# Altium schematic symbol library library-schematic-lib2.schlib: 138 symbols (part 1 of 2)
Pins are listed as number, name and electrical type; pins without a type are passive.

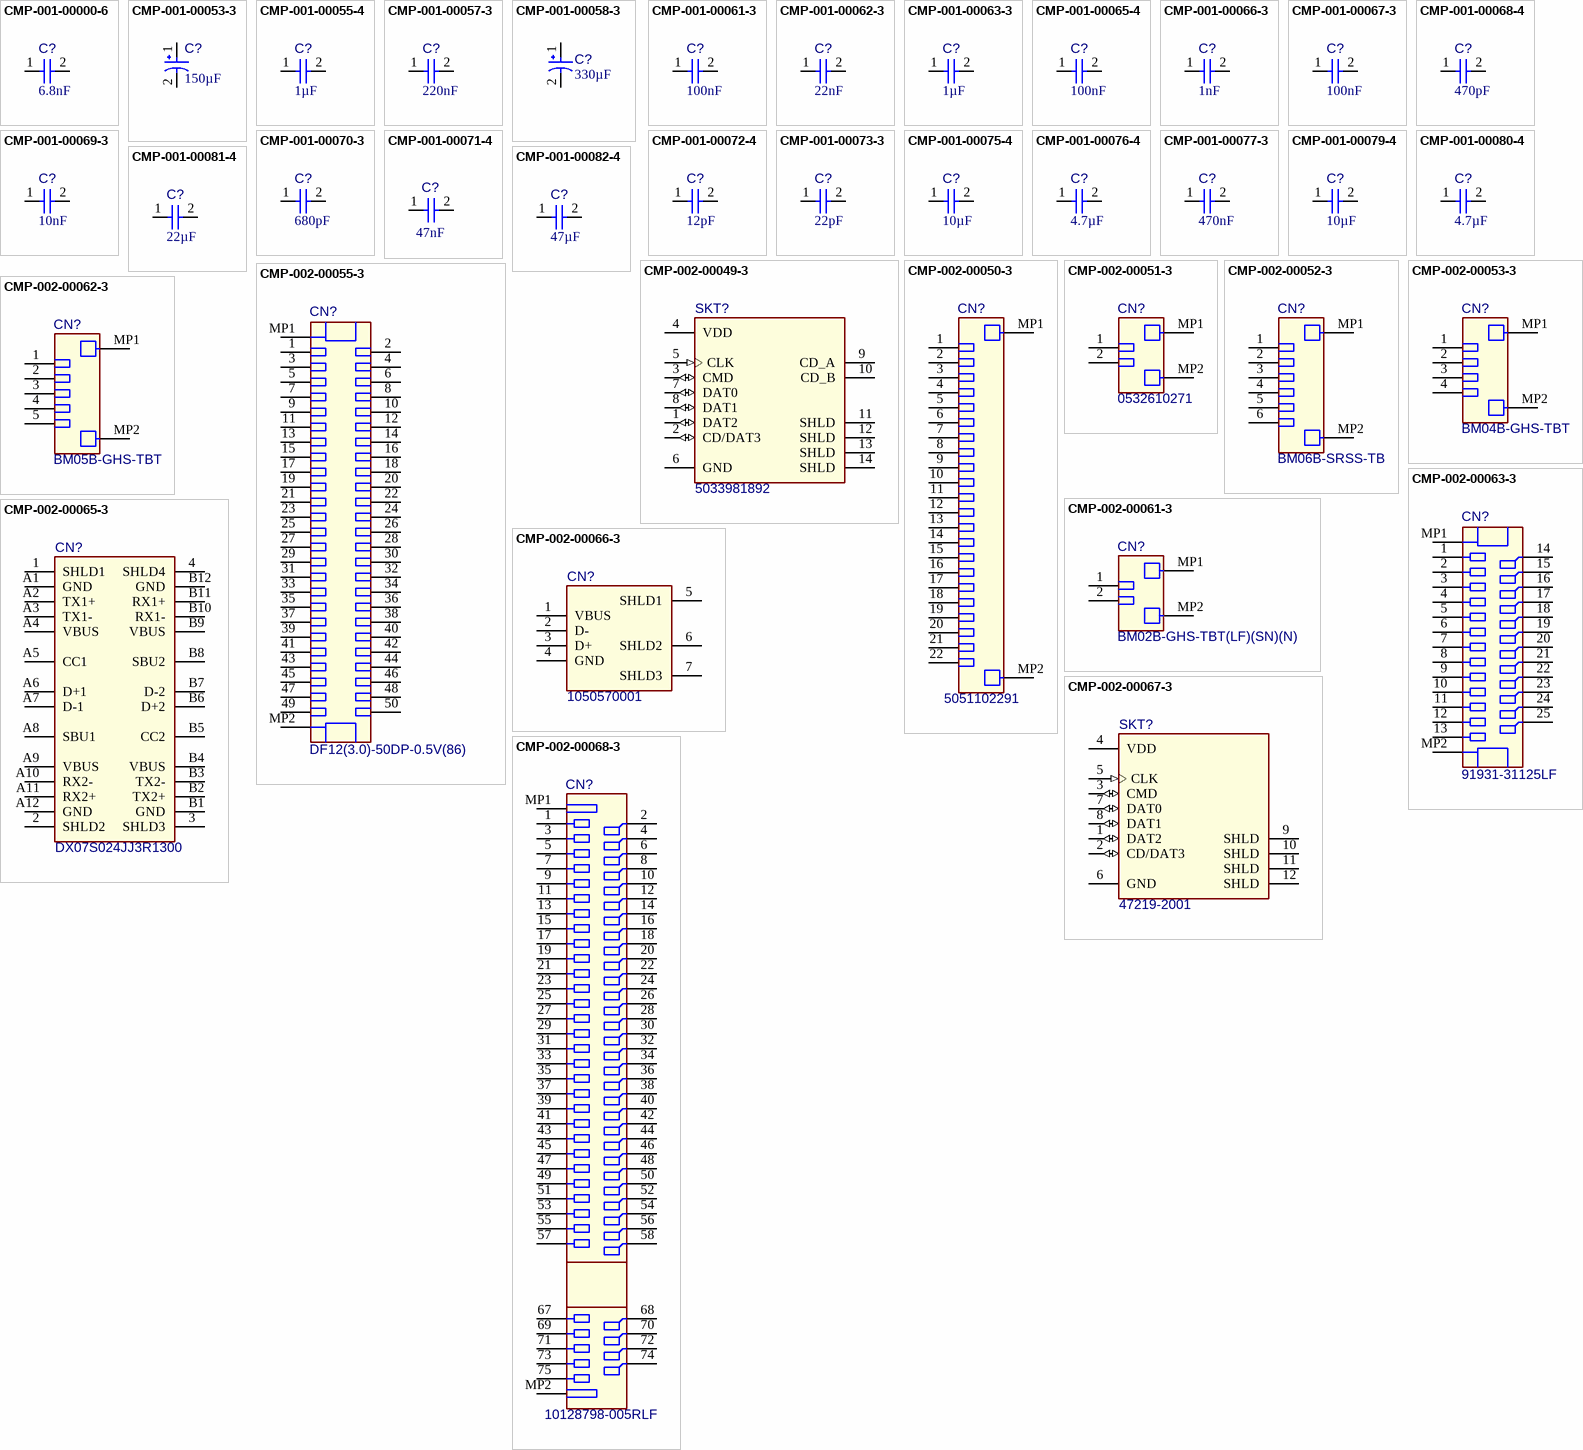
[diagram p0: symbols CMP-001-00000-6 to CMP-002-00068-3]

## CMP-001-00000-6
designator C?, comment value 6.8nF  (hidden comment: Capacitor 6.8 nF +/- 10% 16 V 0402)
Chip Capacitor, 6.8 nF, +/- 10%, 16 V, 0402 (1005 Metric); Manufacturer: Yageo; Manufacturer Part Number: CC0402KRX7R7BB682; Manufacturer: KEMET; Manufacturer Part Number: C0402C682K4RACTU; Manufacturer: Kyocera AVX; Manufacturer Part Number: 04023C682KAT2A; Voltage Rating: 16V; Capacitor Type: Ceramic; Tolerance: 10%; Min Operating Temperature: -55°C; Case/Package: 0402; Mounting Technology: SM; Max Operating Temperature: 125°C; Pins: 2; RoHS Compliant: True
footprint CAPC1005X56X25NL10T15 (Chip Capacitor, 2-Leads, Body 1.10x0.60mm, IPC Medium Density)
footprint CAPC1005X56X25ML10T15 (Chip Capacitor, 2-Leads, Body 1.10x0.60mm, IPC Low Density)
footprint CAPC1005X56X25LL10T15 (Chip Capacitor, 2-Leads, Body 1.10x0.60mm, IPC High Density)
pins: 1, 2

## CMP-001-00053-3
designator C?, comment value 150µF  (hidden comment: Capacitor 150µF +/-20% 6.3V B2)
Molded Tantalum Polymer Capacitor, 150 uF, +/- 20%, 6.3 V, -55 to 105 degC, 2-Pin SMD, RoHS, Tape and Reel; Manufacturer: Panasonic; Manufacturer Part Number: 6TPE150MAZB; Manufacturer: KEMET; Manufacturer Part Number: T520B157M006ATE035; Max Operating Temperature: 105°C; Tolerance: 20%; Case/Package: 2917; Min Operating Temperature: -55°C; Mounting Technology: SMT; Voltage Rating: 6.3V; Pins: 2
footprint PNSC-6TPE150MAZB_L (Molded Capacitor, 2-Leads, Body 3.70x3mm, IPC High Density)
pins: 1, 2

## CMP-001-00055-4
designator C?, comment value 1µF  (hidden comment: Capacitor 1µF +/-0.1% 25V 0603)
Chip Capacitor, 1µF +/-0.1%, 25V, 0603, Thickness 1 mm; Manufacturer: TDK; Manufacturer Part Number: CGA3E3X5R1E105K080AB; Manufacturer: Yageo; Manufacturer Part Number: CC0603KRX5R8BB105; Manufacturer: Samsung; Manufacturer Part Number: CL10A105KA8NNNC; Manufacturer Part Number: CL10A105KA8NFNC; Tolerance: 20%; Max Operating Temperature: 85°C; Voltage Rating: 25V; Pins: 2; Min Operating Temperature: -55°C; Mounting Technology: SMT; Case/Package: 0603
footprint CAPC0603(1608)100_L (Chip Capacitor, Body 1.6x0.8mm, Height 1.0mm, IPC High Density)
pins: 1, 2

## CMP-001-00057-3
designator C?, comment value 220nF  (hidden comment: Capacitor 220nF +/-20% 10V 0402)
Chip Capacitor, 220nF +/-20%, 10V, 0402, Thickness 0.6 mm; Manufacturer: TDK; Manufacturer Part Number: C1005X7R1A224K; Manufacturer Part Number: C1005X5R1A224K; Manufacturer: Yageo; Manufacturer Part Number: CC0402KRX5R6BB224; Tolerance: 10%; Case/Package: 0402; Voltage Rating: 10V; Mounting Technology: SMT; Pins: 2; Max Operating Temperature: 85°C; Min Operating Temperature: -55°C
footprint CAPC0402(1005)60_L (Chip Capacitor, Body 1.0x0.5mm, Height 0.6mm, IPC High Density)
pins: 1, 2

## CMP-001-00058-3
designator C?, comment value 330µF  (hidden comment: Capacitor 330µF +/-20% 6.3V D3)
Molded Tantalum Polymer Capacitor, 330 uF, +/- 20%, 6.3 V, -55 to 105 degC, 2-Pin SMD, RoHS, Tape and Reel; Manufacturer: Panasonic; Manufacturer Part Number: 6TPF330M9L; Tolerance: 20%; Min Operating Temperature: -55°C; Case/Package: 1210; Mounting Technology: SMT; Max Operating Temperature: 105°C; Voltage Rating: 6.3V; Pins: 2
footprint PNSC-6TPF220M5L (Molded Capacitor, 2-Leads, Body 7.60x4.60mm, IPC High Density)
pins: 1, 2

## CMP-001-00061-3
designator C?, comment value 100nF  (hidden comment: Capacitor 100nF +/-20% 10V 0402)
Chip Capacitor, 100nF +/-20%, 10V, 0402, Thickness 0.6 mm; Manufacturer: Yageo; Manufacturer Part Number: CC0402KRX5R6BB104; Manufacturer: KEMET; Manufacturer Part Number: C0402C104K8RACTU; Manufacturer: TDK; Manufacturer Part Number: C1005X7R1A104K; Manufacturer Part Number: C1005X5R1A104K; Manufacturer: Kyocera AVX; Manufacturer Part Number: 0402ZD104KAT4A; Manufacturer Part Number: CC0402KPX7R6BB104; Manufacturer Part Number: C0402C104K8PAC; Manufacturer: Vishay Vitramon; Manufacturer Part Number: VJ0402G104KXQPW1BC; Manufacturer Part Number: CC0402KRX7R6BB104; Manufacturer Part Number: 0402ZD104KAT2A; Manufacturer: Vishay; Manufacturer Part Number: VJ0402Y104KXQCW1BC; Manufacturer Part Number: C0402C104K8PACTU; Manufacturer Part Number: VJ0402G104KXQCW1BC; Manufacturer: Vishay Semiconductors; Manufacturer Part Number: VJ0402Y104KXQPW1BC; Manufacturer: Murata; Manufacturer Part Number: GRM155R71A104KA01D; Manufacturer Part Number: C0402C104K8RAC; Tolerance: 20%; Min Operating Temperature: -55°C; Case/Package: 0402; Voltage Rating: 10V; Pins: 2; Mounting Technology: SMT; Max Operating Temperature: 85°C
footprint CAPC0402(1005)60_L (Chip Capacitor, Body 1.0x0.5mm, Height 0.6mm, IPC High Density)
pins: 1, 2

## CMP-001-00062-3
designator C?, comment value 22nF  (hidden comment: Capacitor 22nF +/-20% 10V 0402)
Chip Capacitor, 22nF +/-20%, 10V, 0402, Thickness 0.6 mm; Manufacturer: KEMET; Manufacturer Part Number: C0402C223K8RAC; Manufacturer: Vishay Vitramon; Manufacturer Part Number: VJ0402Y223KXQCW1BC; Manufacturer Part Number: C0402C223K8PAC; Manufacturer Part Number: VJ0402Y223KXQPW1BC; Manufacturer Part Number: C0402C223K8PACTU; Manufacturer Part Number: C0402C223K8RACTU; Tolerance: 10%; Pins: 2; Case/Package: 0402; Max Operating Temperature: 85°C; Min Operating Temperature: -55°C; Mounting Technology: SMT; Voltage Rating: 10V
footprint CAPC0402(1005)60_L (Chip Capacitor, Body 1.0x0.5mm, Height 0.6mm, IPC High Density)
pins: 1, 2

## CMP-001-00063-3
designator C?, comment value 1µF  (hidden comment: Capacitor 1µF +/-20% 10V 0402)
Chip Capacitor, 1µF +/-20%, 10V, 0402, Thickness 0.6 mm; Manufacturer: Kyocera AVX; Manufacturer Part Number: 0402ZD105KAT2A; Manufacturer: KEMET; Manufacturer Part Number: C0402C105K8PACTU; Manufacturer: Yageo; Manufacturer Part Number: CC0402KRX5R6BB105; Manufacturer: TDK; Manufacturer Part Number: C1005X5R1A105K050BB; Manufacturer Part Number: C1005X6S1A105K; Manufacturer Part Number: C0402C105K8PAC; Tolerance: 10%; Case/Package: 0402; Voltage Rating: 10V; Min Operating Temperature: -55°C; Mounting Technology: SMT; Pins: 2; Max Operating Temperature: 85°C
footprint CAPC0402(1005)60_L (Chip Capacitor, Body 1.0x0.5mm, Height 0.6mm, IPC High Density)
pins: 1, 2

## CMP-001-00065-4
designator C?, comment value 100nF  (hidden comment: Capacitor 100nF +/-20% 25V 0402)
Chip Capacitor, 100nF +/-20%, 25V, 0402, Thickness 0.6 mm; Manufacturer: TDK; Manufacturer Part Number: CGA2B3X7R1E104K050BB; Manufacturer: Kyocera AVX; Manufacturer Part Number: 04023D104KAT2A; Manufacturer: Samsung; Manufacturer Part Number: CL05A104KA5NNNC; Manufacturer: Yageo; Manufacturer Part Number: CC0402KRX5R8BB104; Tolerance: 10%; Mounting Technology: SMT; Pins: 2; Voltage Rating: 25V; Min Operating Temperature: -55°C; Case/Package: 0402; Max Operating Temperature: 85°C
footprint CAPC0402(1005)60_L (Chip Capacitor, Body 1.0x0.5mm, Height 0.6mm, IPC High Density)
pins: 1, 2

## CMP-001-00066-3
designator C?, comment value 1nF  (hidden comment: Capacitor 1nF +/-20% 50V 0402)
Chip Capacitor, 1nF +/-20%, 50V, 0402, Thickness 0.33 mm; Manufacturer: Yageo; Manufacturer Part Number: CC0402KPX7R9BB102; Manufacturer: Murata; Manufacturer Part Number: GRM15XR71H102KA86D; Manufacturer: Wurth Electronics; Manufacturer Part Number: 885012205061; Manufacturer: Vishay Vitramon; Manufacturer Part Number: VJ0402Y102KXAAC; Tolerance: 10%; Case/Package: 0402; Voltage Rating: 50V; Pins: 2; Mounting Technology: SMT; Max Operating Temperature: 85°C; Min Operating Temperature: -55°C
footprint CAPC0402(1005)33_L (Chip Capacitor, Body 1.0x0.5mm, Height 0.33mm, IPC High Density)
pins: 1, 2

## CMP-001-00067-3
designator C?, comment value 100nF  (hidden comment: Capacitor 100nF +/-20% 50V 0402)
Chip Capacitor, 100nF +/-20%, 50V, 0402, Thickness 0.6 mm; Manufacturer: Murata; Manufacturer Part Number: GRM155R61H104JE14D; Manufacturer: Taiyo Yuden; Manufacturer Part Number: UMK105B7104KV-FR; Manufacturer: TDK; Manufacturer Part Number: C1005X7R1H104K; Manufacturer: Yageo; Manufacturer Part Number: CC0402KRX7R9BB104; Manufacturer Part Number: C1005X6S1H104K050BB; Manufacturer Part Number: CC0402KRX5R9BB104; Manufacturer Part Number: C1005X7R1H104K050BB; Manufacturer Part Number: GRM155R71H104KE14D; Manufacturer: Kyocera AVX; Manufacturer Part Number: 04025D104KAT2A; Manufacturer Part Number: GCM155L81E104KE02D; Manufacturer Part Number: C1005X5R1H104K; Tolerance: 10%; Voltage Rating: 50V; Pins: 2; Mounting Technology: SMT; Case/Package: 0402; Max Operating Temperature: 85°C; Min Operating Temperature: -55°C
footprint CAPC0402(1005)60_L (Chip Capacitor, Body 1.0x0.5mm, Height 0.6mm, IPC High Density)
pins: 1, 2

## CMP-001-00068-4
designator C?, comment value 470pF  (hidden comment: Capacitor 470pF +/-20% 50V 0402)
Chip Capacitor, 470pF +/-20%, 50V, 0402, Thickness 0.6 mm; Manufacturer: Kyocera AVX; Manufacturer Part Number: 04025C471KAT4A; Manufacturer: KEMET; Manufacturer Part Number: C0402C471K5RACTM; Manufacturer: Yageo; Manufacturer Part Number: CC0402KRX7R9BB471; Manufacturer: TDK; Manufacturer Part Number: C1005X7R1H471K; Manufacturer Part Number: 04025C471KAT2A; Manufacturer Part Number: C0402C471K5GACTU; Manufacturer: Vishay Vitramon; Manufacturer Part Number: VJ0402Y471KXAAP; Manufacturer Part Number: C0402C471K5RACTU; Manufacturer: Vishay; Manufacturer Part Number: VJ0402Y471KXACW1BC; Manufacturer Part Number: VJ0402Y471KXAPW1BC; Manufacturer Part Number: 04025A471KAT2A; Manufacturer Part Number: C0402C471K5RAC; Manufacturer Part Number: VJ0402Y471KXAAC; Manufacturer Part Number: C1005X5R1H471K; Manufacturer: Murata; Manufacturer Part Number: GRM15XR71H471KA86D; Manufacturer Part Number: C0402C471K5GAC; Manufacturer Part Number: GRM155R71H471KA01D; Tolerance: 20%; Voltage Rating: 50V; Case/Package: 0402; Pins: 2; Mounting Technology: SMT; Max Operating Temperature: 85°C; Min Operating Temperature: -55°C
footprint CAPC0402(1005)60_L (Chip Capacitor, Body 1.0x0.5mm, Height 0.6mm, IPC High Density)
pins: 1, 2

## CMP-001-00069-3
designator C?, comment value 10nF  (hidden comment: Capacitor 10nF +/-20% 50V 0402)
Chip Capacitor, 10nF +/-20%, 50V, 0402, Thickness 0.6 mm; Manufacturer: Vishay Vitramon; Manufacturer Part Number: VJ0402Y103KXACW1BC; Manufacturer: KEMET; Manufacturer Part Number: C0402C103K5RAC-TU; Manufacturer: Vishay Semiconductors; Manufacturer Part Number: VJ0402Y103KXAAC; Manufacturer: Vishay; Manufacturer Part Number: VJ0402Y103KNAAO; Manufacturer Part Number: C0402C103K5RAC; Manufacturer: Yageo; Manufacturer Part Number: CC0402KRX7R9BB103; Manufacturer: TDK; Manufacturer Part Number: C1005X6S1H103K; Manufacturer: Murata; Manufacturer Part Number: GRM155R71H103KA88D; Manufacturer Part Number: C1005X7R1H103K; Tolerance: 5%; Voltage Rating: 50V; Mounting Technology: SMT; Pins: 2; Case/Package: 0402; Max Operating Temperature: 85°C; Min Operating Temperature: -55°C
footprint CAPC0402(1005)60_L (Chip Capacitor, Body 1.0x0.5mm, Height 0.6mm, IPC High Density)
pins: 1, 2

## CMP-001-00070-3
designator C?, comment value 680pF  (hidden comment: Capacitor 680pF +/-20% 50V 0402)
Chip Capacitor, 680pF +/-20%, 50V, 0402, Thickness 0.33 mm; Manufacturer: Murata; Manufacturer Part Number: GRM15XR71H681KA86D; Tolerance: 10%; Voltage Rating: 50V; Pins: 2; Case/Package: 0402; Mounting Technology: SMT; Max Operating Temperature: 85°C; Min Operating Temperature: -55°C
footprint CAPC0402(1005)33_L (Chip Capacitor, Body 1.0x0.5mm, Height 0.33mm, IPC High Density)
pins: 1, 2

## CMP-001-00071-4
designator C?, comment value 47nF  (hidden comment: Capacitor 47nF +/-20% 50V 0402)
Chip Capacitor, 47nF +/-20%, 50V, 0402, Thickness 0.6 mm; Manufacturer: TDK; Manufacturer Part Number: C1005X7R1H473K; Manufacturer Part Number: C1005X7R1H473K050BE; Manufacturer Part Number: C1005X5R1H473K050BB; Manufacturer Part Number: C1005X7R1H473K050BB; Tolerance: 20%; Pins: 2; Voltage Rating: 50V; Mounting Technology: SMT; Case/Package: 0402; Max Operating Temperature: 85°C; Min Operating Temperature: -55°C
footprint CAPC0402(1005)60_L (Chip Capacitor, Body 1.0x0.5mm, Height 0.6mm, IPC High Density)
pins: 1, 2

## CMP-001-00072-4
designator C?, comment value 12pF  (hidden comment: Capacitor 12pF +/-10% 50V 0402)
Chip Capacitor, 12pF +/-10%, 50V, 0402, Thickness 0.33 mm; Manufacturer: Murata; Manufacturer Part Number: GRM1535C1H120JDD5D; Manufacturer: KEMET; Manufacturer Part Number: C0402C120J5GACTU; Manufacturer Part Number: C0402C120J5GACAUTO; Manufacturer: Vishay; Manufacturer Part Number: VJ0402A120JXACW1BC; Manufacturer: TDK; Manufacturer Part Number: CGA2B2C0G1H120J050BA; Manufacturer Part Number: GCM1555C1H120JA16D; Tolerance: 20%; Voltage Rating: 50V; Pins: 2; Case/Package: 0402; Mounting Technology: SMT; Max Operating Temperature: 85°C; Min Operating Temperature: -55°C
footprint CAPC0402(1005)33_L (Chip Capacitor, Body 1.0x0.5mm, Height 0.33mm, IPC High Density)
pins: 1, 2

## CMP-001-00073-3
designator C?, comment value 22pF  (hidden comment: Capacitor 22pF +/-10% 50V 0402)
Chip Capacitor, 22pF +/-10%, 50V, 0402, Thickness 0.6 mm; Manufacturer: KEMET; Manufacturer Part Number: C0402C220J5GAC; Manufacturer: Murata; Manufacturer Part Number: GRM1535C1H220JDD5D; Manufacturer Part Number: GRM1555C1H220JA01D; Manufacturer: Yageo; Manufacturer Part Number: CC0402JRNP09BN220; Manufacturer: TDK; Manufacturer Part Number: C1005C0G1H220J; Manufacturer: Vishay Vitramon; Manufacturer Part Number: VJ0402A220JXAAC; Manufacturer: Vishay; Manufacturer Part Number: VJ0402A220JXACW1BC; Manufacturer: Kyocera AVX; Manufacturer Part Number: 04025A220JAT2A; Manufacturer Part Number: VJ0402A220JNAAO; Manufacturer Part Number: VJ0402A220JXAPW1BC; Manufacturer Part Number: VJ0402A220JXAAP; Manufacturer Part Number: C0402C220J5GACTU; Manufacturer Part Number: 04025A220JAT4A; Tolerance: 10%; Voltage Rating: 50V; Pins: 2; Case/Package: 0402; Mounting Technology: SMT; Max Operating Temperature: 85°C; Min Operating Temperature: -55°C
footprint CAPC0402(1005)60_L (Chip Capacitor, Body 1.0x0.5mm, Height 0.6mm, IPC High Density)
pins: 1, 2

## CMP-001-00075-4
designator C?, comment value 10µF  (hidden comment: Capacitor 10µF +/-20% 10V 0603)
Chip Capacitor, 10µF +/-20%, 10V, 0603, Thickness 1 mm; Manufacturer: Yageo; Manufacturer Part Number: CC0603KRX5R6BB106; Manufacturer: TDK; Manufacturer Part Number: C1608X5R1A106K; Manufacturer: Kyocera AVX; Manufacturer Part Number: 0603ZD106KAT2A; Manufacturer: Murata; Manufacturer Part Number: GRM188R61C106KAALD; Manufacturer: Samsung; Manufacturer Part Number: CL10A106KP8NNNC; Manufacturer Part Number: C1608X5R1A106K080AC; Manufacturer Part Number: GRM188R61A106KAALD; Tolerance: 10%; Pins: 2; Mounting Technology: SMT; Case/Package: 0603; Voltage Rating: 10V; Max Operating Temperature: 85°C; Min Operating Temperature: -55°C
footprint CAPC0603(1608)100_L (Chip Capacitor, Body 1.6x0.8mm, Height 1.0mm, IPC High Density)
pins: 1, 2

## CMP-001-00076-4
designator C?, comment value 4.7µF  (hidden comment: Capacitor 4.7µF +/-20% 10V 0603)
Chip Capacitor, 4.7µF +/-20%, 10V, 0603, Thickness 1 mm; Manufacturer: Kyocera AVX; Manufacturer Part Number: 0603ZD475KAT2A; Manufacturer: Yageo; Manufacturer Part Number: CC0603KRX5R6BB475; Manufacturer: KEMET; Manufacturer Part Number: C0603C475K8PAC; Manufacturer Part Number: C0603C475K8PACTU; Manufacturer: TDK; Manufacturer Part Number: C1608X6S1A475K; Manufacturer Part Number: C1608X5R1A475K/0.80; Manufacturer Part Number: C1608X5R1A475K/0.50; Tolerance: 10%; Mounting Technology: SMT; Case/Package: 0603; Voltage Rating: 10V; Pins: 2; Max Operating Temperature: 85°C; Min Operating Temperature: -55°C
footprint CAPC0603(1608)100_L (Chip Capacitor, Body 1.6x0.8mm, Height 1.0mm, IPC High Density)
pins: 1, 2

## CMP-001-00077-3
designator C?, comment value 470nF  (hidden comment: Capacitor 470nF +/-20% 25V 0603)
Chip Capacitor, 470nF +/-20%, 25V, 0603, Thickness 1 mm; Manufacturer: TDK; Manufacturer Part Number: C1608X6S1E474K; Manufacturer Part Number: C1608X7R1E474K; Manufacturer Part Number: C1608X5R1E474K; Manufacturer: Vishay; Manufacturer Part Number: VJ0603Y474KXXCW1BC; Manufacturer: Murata; Manufacturer Part Number: GRM188R71E474KA12D; Manufacturer: Yageo; Manufacturer Part Number: CC0603KRX5R8BB474; Manufacturer: Kyocera AVX; Manufacturer Part Number: 06033C474KAT2A; Tolerance: 10%; Voltage Rating: 25V; Mounting Technology: SMT; Pins: 2; Case/Package: 0603; Max Operating Temperature: 85°C; Min Operating Temperature: -55°C
footprint CAPC0603(1608)100_L (Chip Capacitor, Body 1.6x0.8mm, Height 1.0mm, IPC High Density)
pins: 1, 2

## CMP-001-00079-4
designator C?, comment value 10µF  (hidden comment: Capacitor 10µF +/-20% 25V 0805)
Chip Capacitor, 10µF +/-20%, 25V, 0805, Thickness 1.45 mm; Manufacturer: Yageo; Manufacturer Part Number: CC0805KKX5R8BB106; Manufacturer: TDK; Manufacturer Part Number: C2012X5R1E106K125AB; Manufacturer: Samsung; Manufacturer Part Number: CL21A106KACLRNC; Manufacturer Part Number: C2012X5R1E106K; Manufacturer: Murata; Manufacturer Part Number: GRM21BR61E106KA73L; Manufacturer Part Number: C2012X5R1E106K085AC; Tolerance: 10%; Mounting Technology: SMT; Voltage Rating: 25V; Pins: 2; Case/Package: 0805; Max Operating Temperature: 85°C; Min Operating Temperature: -55°C
footprint CAPC0805(2012)145_L (Chip Capacitor, Body 2.0x1.2mm, Height 1.45mm, IPC High Density)
pins: 1, 2

## CMP-001-00080-4
designator C?, comment value 4.7µF  (hidden comment: Capacitor 4.7µF +/-40% 25V 0805)
Chip Capacitor, 4.7µF +/-40%, 25V, 0805, Thickness 1.45 mm; Manufacturer: Kyocera AVX; Manufacturer Part Number: 08053D475MAT2A; Manufacturer: KEMET; Manufacturer Part Number: C0805C475M3PAC; Manufacturer Part Number: 08053C475KAT2A; Tolerance: 20%; Voltage Rating: 25V; Mounting Technology: SMT; Pins: 2; Case/Package: 0805; Max Operating Temperature: 85°C; Min Operating Temperature: -55°C
footprint CAPC0805(2012)145_L (Chip Capacitor, Body 2.0x1.2mm, Height 1.45mm, IPC High Density)
pins: 1, 2

## CMP-001-00081-4
designator C?, comment value 22µF  (hidden comment: Capacitor 22µF +/-40% 16V 0805)
Chip Capacitor, 22µF +/-40%, 16V, 0805, Thickness 1.45 mm; Manufacturer: Murata; Manufacturer Part Number: GRM219R61C226ME15L; Manufacturer: Samsung; Manufacturer Part Number: CL21A226MAQNNNE; Manufacturer Part Number: CL21A226MOCLRNC; Manufacturer: TDK; Manufacturer Part Number: C2012X5R1C226M; Manufacturer Part Number: CL21A226MOQNNNE; Manufacturer Part Number: CL21A226KOQNNNE; Manufacturer Part Number: GRM21BR61C226ME44L; Tolerance: 5%; Voltage Rating: 16V; Case/Package: 0805; Pins: 2; Mounting Technology: SMT; Max Operating Temperature: 85°C; Min Operating Temperature: -55°C
footprint CAPC0805(2012)145_L (Chip Capacitor, Body 2.0x1.2mm, Height 1.45mm, IPC High Density)
pins: 1, 2

## CMP-001-00082-4
designator C?, comment value 47µF  (hidden comment: Capacitor 47µF +/-40% 6.3V 0805)
Chip Capacitor, 47µF +/-40%, 6.3V, 0805, Thickness 1.45 mm; Manufacturer: Murata; Manufacturer Part Number: GRM21BR60J476ME15K; Manufacturer: KEMET; Manufacturer Part Number: C0805C476M9PAC; Manufacturer Part Number: C0805C476M9PAC-TU; Manufacturer: Taiyo Yuden; Manufacturer Part Number: JMK212BBJ476MG-T; Manufacturer: TDK; Manufacturer Part Number: C2012X5R0J476M; Manufacturer Part Number: GRM21BR60J476ME15L; Manufacturer: Samsung; Manufacturer Part Number: CL21A476MQYNNNE; Tolerance: 10%; Case/Package: 0805; Pins: 2; Mounting Technology: SMT; Voltage Rating: 6.3V; Max Operating Temperature: 85°C; Min Operating Temperature: -55°C
footprint CAPC0805(2012)145_L (Chip Capacitor, Body 2.0x1.2mm, Height 1.45mm, IPC High Density)
pins: 1, 2

## CMP-002-00049-3
designator SKT?, comment 5033981892
Micro SD Card Connector, Pitch 1.1 mm, 8 Position, Height 1.4 mm, -25 to 85 degC, RoHS, Tape and Reel; Manufacturer: Molex; Manufacturer Part Number: 503398-1892; Pins: 14
footprint MOLX-5033981892_V (CONN, 8-Leads, Body 14.05x13.2mm, Pitch 1.1mm)
pins: 1 DAT2 (io), 2 CD/DAT3 (io), 3 CMD (io), 4 VDD (power), 5 CLK (in), 6 GND, 7 DAT0 (io), 8 DAT1 (io), 9 CD_A, 10 CD_B, 11 SHLD, 12 SHLD, 13 SHLD, 14 SHLD

## CMP-002-00050-3
designator CN?, comment 5051102291
Right Angle FFC/FPC Connector, 50 V, 0.5 A, -40 to 105 degC, RoHS, Tape and Reel; Manufacturer: Molex; Manufacturer Part Number: 505110-2291; Pins: 24
footprint MOLX-5051102291_V (SMD, 22-Leads, Body 5.3x16.5mm, Pitch 0.5mm)
pins: 1, 2, 3, 4, 5, 6, 7, 8, 9, 10, 11, 12, 13, 14, 15, 16, 17, 18, 19, 20, 21, 22, MP1, MP2

## CMP-002-00051-3
designator CN?, comment 0532610271
Header, Pitch 1.25 mm, 1 x 2 Position, Height 3.6 mm, -40 to 85 degC; Manufacturer: Molex; Manufacturer Part Number: 532610271+; Manufacturer Part Number: 53261-0271; Connector Type: WiretoBoard; Gender: HDR; Pins: 4
footprint MOLX-532610271_V (SMD, 2-Leads, Body 7.65x4.2mm, Pitch 1.25mm)
pins: 1, 2, MP1, MP2

## CMP-002-00052-3
designator CN?, comment BM06B-SRSS-TB
Header, Pitch 1 mm, 1 x 6 Position, Height 4.25 mm, -25 to 85 degC; Manufacturer: JST; Manufacturer Part Number: BM06B-SRSS-TBT(LF)(SN); Manufacturer Part Number: BM06B-SRSS-TB(LF)(SN); Connector Type: Header,Shrouded; Pins: 8; Manufacturer Part Number: BM06B-SRSS-TB
footprint JST-BM06B-SRSS-TB_V (SMD, 6-Leads, Body 2.9x8mm, Pitch 1mm)
pins: 1, 2, 3, 4, 5, 6, MP1, MP2

## CMP-002-00053-3
designator CN?, comment BM04B-GHS-TBT
Header, Pitch 1.25 mm, 1 x 4 Position, Height 4.05 mm, -25 to 85 degC; Manufacturer: JST; Manufacturer Part Number: BM04B-GHS-TBT(LF)(SN)(N); Manufacturer Part Number: BM04B-GHS-TBT(LF)(SN); Pins: 6
footprint JST-BM04B-GHS-TBT_V (Connector, 4-Leads, Body 8.25x4.25mm, Pitch 1.25mm)
pins: 1, 2, 3, 4, MP1, MP2

## CMP-002-00055-3
designator CN?, comment DF12(3.0)-50DP-0.5V(86)
Plug Connector, 50 V, 0.3 A, -45 to 125 degC, RoHS, Tape and Reel; Manufacturer: Hirose; Pins: 52; Manufacturer Part Number: DF12(3.0)-50DP-0.5V(86)
footprint HIRO-DF12(3.0)-50DP-0.5V_V (SMD, 50-Leads, Body 14.7x3.8mm, Pitch 0.5mm)
pins: 1, 2, 3, 4, 5, 6, 7, 8, 9, 10, 11, 12, 13, 14, 15, 16, 17, 18, 19, 20, 21, 22, 23, 24, 25, 26, 27, 28, 29, 30, 31, 32, 33, 34, 35, 36, 37, 38, 39, 40, 41, 42, 43, 44, 45, 46, 47, 48, 49, 50, MP1, MP2

## CMP-002-00061-3
designator CN?, comment BM02B-GHS-TBT(LF)(SN)(N)
Disconnectable Crimp Style Connector, Pitch 1.25 mm, 1 x 2 Position, Height 4.05 mm, -25 to 85 degC, RoHS, Tape and Reel; Manufacturer: JST; Manufacturer Part Number: BM02B-GHS-TBT(LF)(SN)(N)-; Connector Type: Header,Shrouded; Mounting Technology: SurfaceMount; Pins: 4; Case/Package: Disconnectable Crimp Style Connector, Pitch 1.25 mm, 1 x 2 Position, Height 4.05 mm; Manufacturer Part Number: BM02B-GHS-TBT(LF)(SN)(N)
footprint JST-BM02B-GHS-TBT_V (Connector, 2-Leads, Body 5.75x4.25mm, Pitch 1.25mm)
pins: 1, 2, MP1, MP2

## CMP-002-00062-3
designator CN?, comment BM05B-GHS-TBT
GH Disconnectable Crimp Style Connector, Pitch 1.25 mm, 1 x 5 Position, Height 4.05 mm, -25 to 85 degC, RoHS, Tape and Reel; Manufacturer: JST; Manufacturer Part Number: BM05B-GHS-TBT(LF)(SN)(N);-; Manufacturer Part Number: BM05B-GHS-TBT(LF)(SN)(N); Mounting Technology: SurfaceMount; Pins: 7; Case/Package: GH Disconnectable Crimp Style Connector, Pitch 1.25 mm, 1 x 5 Position, Height 4.05 mm
footprint JST-BM05B-GHS-TBT_V (Connector, 5-Leads, Body 9.5x4.25mm, Pitch 1.25mm)
pins: 1, 2, 3, 4, 5, MP1, MP2

## CMP-002-00063-3
designator CN?, comment 91931-31125LF
Receptacle, Pitch 1 mm, 25 Position, Height 4.15 mm, -55 to 130 degC; Manufacturer: Amphenol ICC / FCI; Pins: 27; Manufacturer Part Number: 91931-31125LF
footprint AMPH-91931-31125_V (SMD, 25-Leads, Body 5.59x17.3mm, Pitch 1mm)
pins: 1, 2, 3, 4, 5, 6, 7, 8, 9, 10, 11, 12, 13, 14, 15, 16, 17, 18, 19, 20, 21, 22, 23, 24, 25, MP1, MP2

## CMP-002-00065-3
designator CN?, comment DX07S024JJ3R1300
USB-C Connector, 20 V, 1.25 A, -30 to 80 degC, RoHS, Tape and Reel; Manufacturer: JAE Electronics; Gender: Receptacle; Connector Type: USB-C; Pins: 28; Manufacturer Part Number: DX07S024JJ3R1300
footprint JAE-DX07S024JJ3_V (THD, 24-Leads, Body 8.17x8.94mm, Pitch 0.5mm)
pins: 1 SHLD1, 2 SHLD2, 3 SHLD3, 4 SHLD4, A1 GND, A2 TX1+, A3 TX1-, A4 VBUS, A5 CC1, A6 D+1, A7 D-1, A8 SBU1, A9 VBUS, A10 RX2-, A11 RX2+, A12 GND, B1 GND, B2 TX2+, B3 TX2-, B4 VBUS, B5 CC2, B6 D+2, B7 D-2, B8 SBU2, B9 VBUS, B10 RX1-, B11 RX1+, B12 GND

## CMP-002-00066-3
designator CN?, comment 1050570001
USB-A Connector, 30 V, 1.5 A, -40 to 85 degC, RoHS, Tape and Reel; Manufacturer: Molex; Gender: RCP; Pins: 7; RoHS Compliant: Yes; Manufacturer Part Number: 1050570001
footprint MOLX-1050570001_V (THD, 4-Leads, Body 14.63x7.25mm)
pins: 1 VBUS, 2 D-, 3 D+, 4 GND, 5 SHLD1, 6 SHLD2, 7 SHLD3

## CMP-002-00067-3
designator SKT?, comment 47219-2001
MicroSD Card Connector, Hinge Type, -40 to 85 degC, 8-Pin SMD, RoHS, Tape and Reel; Manufacturer: Molex; Manufacturer Part Number: 0472192001; Pins: 12; RoHS Compliant: Details; Manufacturer Part Number: 47219-2001
footprint MOLX-47219-2001-8_V (CONN, 8-Leads, Body 14.5x13.6mm, Pitch 1.1mm)
pins: 1 DAT2 (io), 2 CD/DAT3 (io), 3 CMD (io), 4 VDD (power), 5 CLK (in), 6 GND, 7 DAT0 (io), 8 DAT1 (io), 9 SHLD, 10 SHLD, 11 SHLD, 12 SHLD

## CMP-002-00068-3
designator CN?, comment 10128798-005RLF
Card Edge Connector, Pitch 0.5 mm, 67 Position, Height 5.8 mm; Manufacturer: Amphenol ICC; Pins: 69; Manufacturer Part Number: 10128798-005RLF
footprint AMPH-10128798-005RLF_V (SMD, 67-Leads, Body 21.9x7.2mm, Pitch 0.5mm)
pins: 1, 2, 3, 4, 5, 6, 7, 8, 9, 10, 11, 12, 13, 14, 15, 16, 17, 18, 19, 20, 21, 22, 23, 24, 25, 26, 27, 28, 29, 30, 31, 32, 33, 34, 35, 36, 37, 38, 39, 40, 41, 42, 43, 44, 45, 46, 47, 48, 49, 50, 51, 52, 53, 54, 55, 56, 57, 58, 67, 68, 69, 70, 71, 72, 73, 74, 75, MP1, MP2

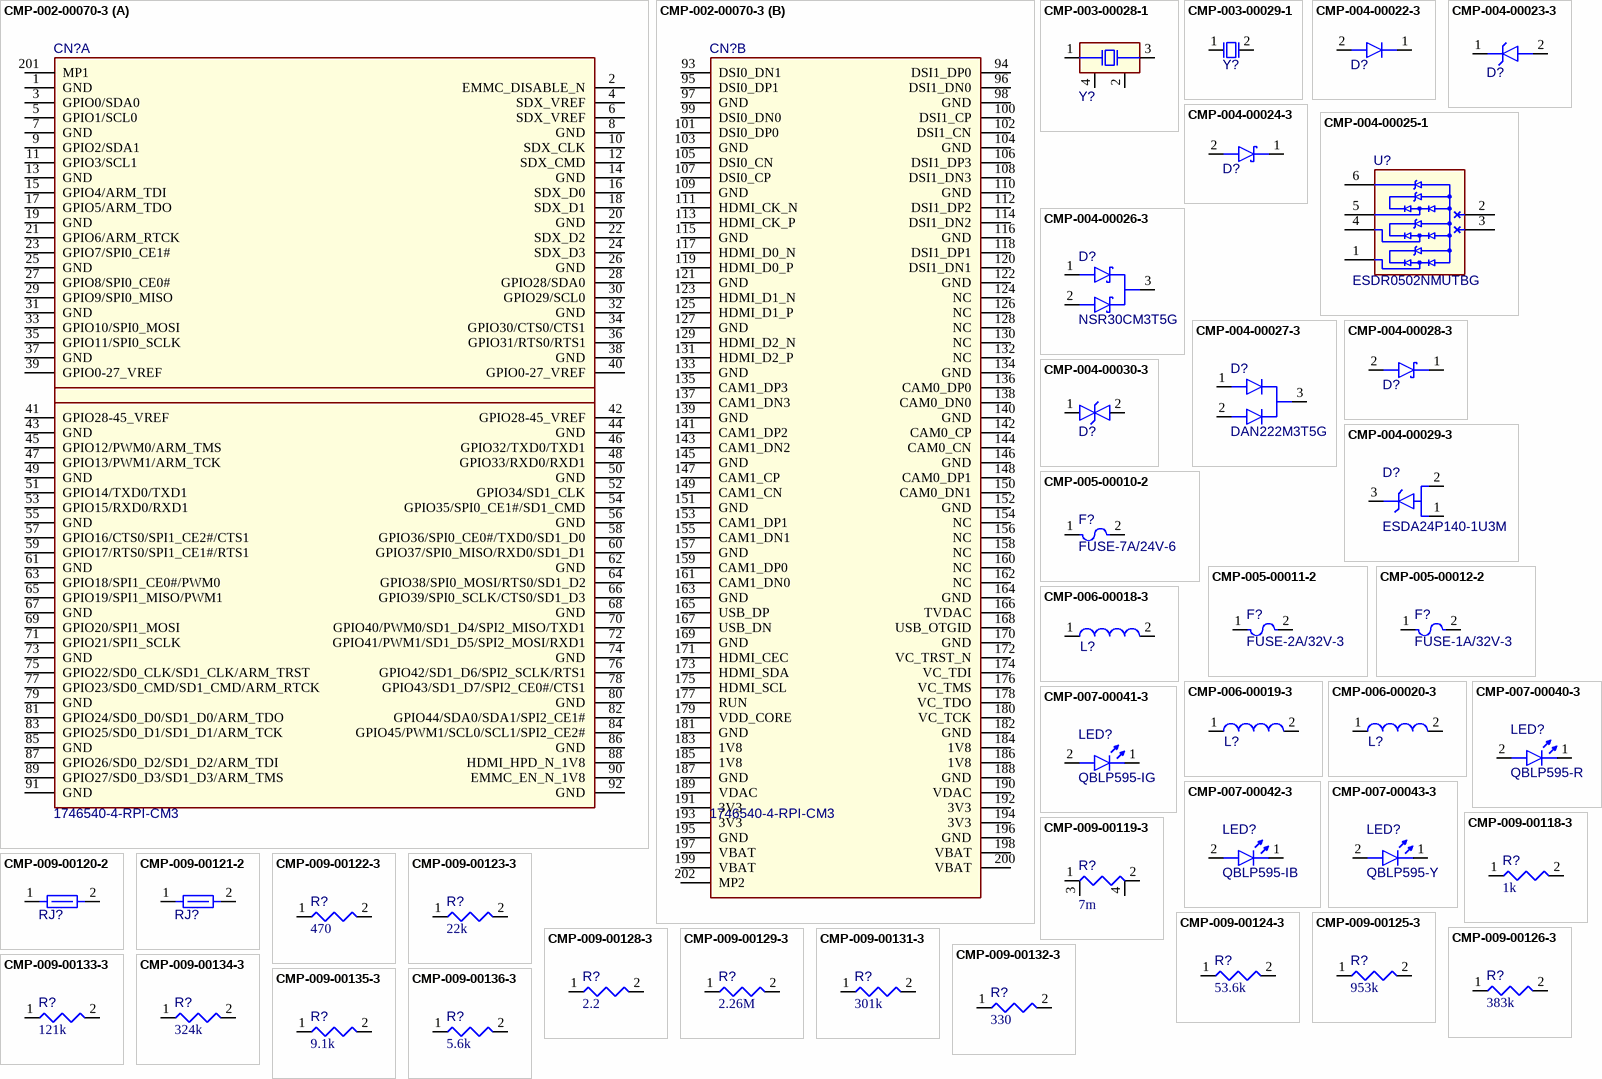
[diagram p1: symbols CMP-002-00070-3 to CMP-009-00136-3]

## CMP-002-00070-3
designator CN?, comment 1746540-4-RPI-CM3
Raspberry Pi Compute Module 3 socket; Manufacturer: TE Connectivity; Pins: 202; Manufacturer Part Number: 1746540-4
footprint TECO-1746540-4_V (SMD, 200-Leads, Body 71.5x26.55mm, Pitch 0.6mm)
part A pins: 1 GND, 2 EMMC_DISABLE_N, 3 GPIO0/SDA0, 4 SDX_VREF, 5 GPIO1/SCL0, 6 SDX_VREF, 7 GND, 8 GND, 9 GPIO2/SDA1, 10 SDX_CLK, 11 GPIO3/SCL1, 12 SDX_CMD, 13 GND, 14 GND, 15 GPIO4/ARM_TDI, 16 SDX_D0, 17 GPIO5/ARM_TDO, 18 SDX_D1, 19 GND, 20 GND, 21 GPIO6/ARM_RTCK, 22 SDX_D2, 23 GPIO7/SPI0_CE1#, 24 SDX_D3, 25 GND, 26 GND, 27 GPIO8/SPI0_CE0#, 28 GPIO28/SDA0, 29 GPIO9/SPI0_MISO, 30 GPIO29/SCL0, 31 GND, 32 GND, 33 GPIO10/SPI0_MOSI, 34 GPIO30/CTS0/CTS1, 35 GPIO11/SPI0_SCLK, 36 GPIO31/RTS0/RTS1, 37 GND, 38 GND, 39 GPIO0-27_VREF, 40 GPIO0-27_VREF, 41 GPIO28-45_VREF, 42 GPIO28-45_VREF, 43 GND, 44 GND, 45 GPIO12/PWM0/ARM_TMS, 46 GPIO32/TXD0/TXD1, 47 GPIO13/PWM1/ARM_TCK, 48 GPIO33/RXD0/RXD1, 49 GND, 50 GND, 51 GPIO14/TXD0/TXD1, 52 GPIO34/SD1_CLK, 53 GPIO15/RXD0/RXD1, 54 GPIO35/SPI0_CE1#/SD1_CMD, 55 GND, 56 GND, 57 GPIO16/CTS0/SPI1_CE2#/CTS1, 58 GPIO36/SPI0_CE0#/TXD0/SD1_D0, 59 GPIO17/RTS0/SPI1_CE1#/RTS1, 60 GPIO37/SPI0_MISO/RXD0/SD1_D1, 61 GND, 62 GND, 63 GPIO18/SPI1_CE0#/PWM0, 64 GPIO38/SPI0_MOSI/RTS0/SD1_D2, 65 GPIO19/SPI1_MISO/PWM1, 66 GPIO39/SPI0_SCLK/CTS0/SD1_D3, 67 GND, 68 GND, 69 GPIO20/SPI1_MOSI, 70 GPIO40/PWM0/SD1_D4/SPI2_MISO/TXD1, 71 GPIO21/SPI1_SCLK, 72 GPIO41/PWM1/SD1_D5/SPI2_MOSI/RXD1, 73 GND, 74 GND, 75 GPIO22/SD0_CLK/SD1_CLK/ARM_TRST, 76 GPIO42/SD1_D6/SPI2_SCLK/RTS1, 77 GPIO23/SD0_CMD/SD1_CMD/ARM_RTCK, 78 GPIO43/SD1_D7/SPI2_CE0#/CTS1, 79 GND, 80 GND, 81 GPIO24/SD0_D0/SD1_D0/ARM_TDO, 82 GPIO44/SDA0/SDA1/SPI2_CE1#, 83 GPIO25/SD0_D1/SD1_D1/ARM_TCK, 84 GPIO45/PWM1/SCL0/SCL1/SPI2_CE2#, 85 GND, 86 GND, 87 GPIO26/SD0_D2/SD1_D2/ARM_TDI, 88 HDMI_HPD_N_1V8, 89 GPIO27/SD0_D3/SD1_D3/ARM_TMS, 90 EMMC_EN_N_1V8, 91 GND, 92 GND, 201 MP1
part B pins: 93 DSI0_DN1, 94 DSI1_DP0, 95 DSI0_DP1, 96 DSI1_DN0, 97 GND, 98 GND, 99 DSI0_DN0, 100 DSI1_CP, 101 DSI0_DP0, 102 DSI1_CN, 103 GND, 104 GND, 105 DSI0_CN, 106 DSI1_DP3, 107 DSI0_CP, 108 DSI1_DN3, 109 GND, 110 GND, 111 HDMI_CK_N, 112 DSI1_DP2, 113 HDMI_CK_P, 114 DSI1_DN2, 115 GND, 116 GND, 117 HDMI_D0_N, 118 DSI1_DP1, 119 HDMI_D0_P, 120 DSI1_DN1, 121 GND, 122 GND, 123 HDMI_D1_N, 124 NC, 125 HDMI_D1_P, 126 NC, 127 GND, 128 NC, 129 HDMI_D2_N, 130 NC, 131 HDMI_D2_P, 132 NC, 133 GND, 134 GND, 135 CAM1_DP3, 136 CAM0_DP0, 137 CAM1_DN3, 138 CAM0_DN0, 139 GND, 140 GND, 141 CAM1_DP2, 142 CAM0_CP, 143 CAM1_DN2, 144 CAM0_CN, 145 GND, 146 GND, 147 CAM1_CP, 148 CAM0_DP1, 149 CAM1_CN, 150 CAM0_DN1, 151 GND, 152 GND, 153 CAM1_DP1, 154 NC, 155 CAM1_DN1, 156 NC, 157 GND, 158 NC, 159 CAM1_DP0, 160 NC, 161 CAM1_DN0, 162 NC, 163 GND, 164 GND, 165 USB_DP, 166 TVDAC, 167 USB_DN, 168 USB_OTGID, 169 GND, 170 GND, 171 HDMI_CEC, 172 VC_TRST_N, 173 HDMI_SDA, 174 VC_TDI, 175 HDMI_SCL, 176 VC_TMS, 177 RUN, 178 VC_TDO, 179 VDD_CORE, 180 VC_TCK, 181 GND, 182 GND, 183 1V8 (power), 184 1V8, 185 1V8, 186 1V8, 187 GND, 188 GND, 189 VDAC, 190 VDAC, 191 3V3, 192 3V3, 193 3V3, 194 3V3, 195 GND, 196 GND, 197 VBAT, 198 VBAT, 199 VBAT, 200 VBAT, 202 MP2

## CMP-003-00028-1
designator Y?, comment FA-12824.0000MF10Z-W3  (value not drawn)
Crystal, 24 MHz, +/- 10 ppm, -20 to 75 degC, 4-Pin SMD, RoHS, Tape and Reel; Manufacturer: Epson; ESR: 80; Load Capacitance: 12pF; Frequency: 24MHz; Mounting Technology: SMT; Pins: 4; RoHS Compliant: Yes; Max Operating Temperature: 75°C; Case/Package: SMD/SMT; Min Operating Temperature: -20°C; Manufacturer Part Number: FA-12824.0000MF10Z-W3
footprint EPSON-FA-128_V (SMD, 4-Leads, Body 2x1.6mm, Pitch 1.45mm)
pins: 1 X1, 2 NC (power), 3 X2, 4 NC (power)

## CMP-003-00029-1
designator Y?, comment ABS07-166-32.768KHZ-T  (value not drawn)
Crystal 32.768kHz 10ppm 7pF -40C +85C; Manufacturer: Abracon; Frequency: 32.768kHz; Pins: 2; Manufacturer Part Number: ABS07-166-32.768KHZ-T
footprint EPSON-FC-135_V (SMD, 2-Leads, Body 3.2x1.5mm)
pins: 1, 2

## CMP-004-00022-3
designator D?, comment 1SS400CSFH  (value not drawn)
Switching Diode (High Speed Switching), 80 V, 100 mA, 2-Pin SOD-923, RoHS, Tape and Reel; Manufacturer: Rohm; Manufacturer Part Number: 1SS400CSFHT2RA; Mounting Technology: SMT; Pins: 2
footprint ROHM-VMN2-2_V (VMN2, 2-Leads, Body 0.9x0.6mm, Pitch 0.95mm)
pins: 1 K, 2 A

## CMP-004-00023-3
designator D?, comment ESDA25P35-1U1M  (value not drawn)
TVS DIODE 22V 41V 1610; Manufacturer: STMicroelectronics; Peak Inverse Voltage: 23.3V; Max Surge Current: 35A; RoHS Compliant: Yes; Mounting Technology: SMT; Case/Package: QFN1610 (0603); Pins: 2; Manufacturer Part Number: ESDA25P35-1U1M
footprint STM-QFN1610 (SMD, 2-Leads, Body 1.6x1mm)
pins: 1 A, 2 A

## CMP-004-00024-3
designator D?, comment MSS1P4-M3/89A  (value not drawn)
Schottky Diodes & Rectifiers 1.0 Amp 40 Volt; Manufacturer: Vishay Semiconductors; Forward Voltage: 460mV; Max Surge Current: 25A; Max Operating Temperature: 150°C; Mounting Technology: SMT; Min Operating Temperature: -55°C; Pins: 2; Manufacturer Part Number: MSS1P4-M3/89A
footprint MicroSMP (DO-219AD) (SOD, 2-Leads, Body 2.3x1.4mm)
pins: 1 K, 2 A

## CMP-004-00025-1
designator U?, comment ESDR0502NMUTBG
Ultra Low Capacitance ESD Protection Array for High Speed Data Line Protection, 6-Pin UDFN, Pb-Free, Tape and Reel; Manufacturer: ON Semiconductor; Mounting Technology: SMT; ComponentLink2URL: http://www.onsemi.cn/pub_link/Collateral/ESDR0502N-D.PDF; ComponentLink3URL: http://www.onsemi.com/pub_link/Collateral/517AA.PDF; ComponentLink1Description: Manufacturer URL; ComponentLink2Description: Datasheet; ComponentLink3Description: Package Specification; ComponentLink1URL: http://www.onsemi.com/; Pins: 6; Manufacturer Part Number: ESDR0502NMUTBG
footprint ONSC-UDFN-6-517AA-01_V (SON, 6-Leads, Body 1.2x1mm, Pitch 0.4mm)
pins: 1 GND (power), 2 NC, 3 NC, 4 D-, 5 D+, 6 VBUS (power)

## CMP-004-00026-3
designator D?, comment NSR30CM3T5G
Dual Common Cathode Schottky Barrier Diodes, 3-Pin SOT-723, Pb-Free, Tape and Reel; Manufacturer: ON Semiconductor; ComponentLink2URL: http://www.onsemi.cn/pub_link/Collateral/NSR30CM3T5G-D.PDF; ComponentLink2Description: Datasheet; Mounting Technology: SMT; ComponentLink1URL: http://www.onsemi.com/; ComponentLink1Description: Manufacturer URL; ComponentLink3URL: http://www.onsemi.cn/pub_link/Collateral/BAT54M3-D.PDF; ComponentLink3Description: Package Specification; Pins: 3; Manufacturer Part Number: NSR30CM3T5G
footprint ONSC-SOT-723-3-631AA-01_C_V (SOT23, 3-Leads, Body 1.25x0.85mm, Pitch 0.4mm)
pins: 1 A1, 2 A2, 3 K

## CMP-004-00027-3
designator D?, comment DAN222M3T5G
Common Cathode Silicon Dual Switching Diodes, 3-Pin SOT-723, Pb-Free, Tape and Reel; Manufacturer: ON Semiconductor; Forward Current: 100mA; Mounting Technology: SMT; ComponentLink2URL: http://www.onsemi.cn/pub_link/Collateral/DAN222M3-D.PDF; ComponentLink3URL: http://www.onsemi.com/pub_link/Collateral/631AA.PDF; ComponentLink3Description: Package Specification; ComponentLink1URL: http://www.onsemi.com/; ComponentLink1Description: Manufacturer URL; ComponentLink2Description: Datasheet; Pins: 3; Manufacturer Part Number: DAN222M3T5G
footprint ROHM-SOT723-3_V (SOT723, 3-Leads, Body 1.2x0.8mm, Pitch 0.8mm)
pins: 1 A1, 2 A2, 3 K

## CMP-004-00028-3
designator D?, comment RB520CM-30  (value not drawn)
DIODE SCHOTTKY 30V 100MA VMN2M; Manufacturer: Rohm; Manufacturer Part Number: RB520CM-30T2R; Case/Package: SMD/SMT; Mounting Technology: SMT; Pins: 2
footprint ROHM-VMN2-2_V (VMN2, 2-Leads, Body 0.9x0.6mm, Pitch 0.95mm)
pins: 1 K, 2 A

## CMP-004-00029-3
designator D?, comment ESDA24P140-1U3M
TVS diode, 4500W, 22V standoff, 29.5V clamp; Manufacturer: STMicroelectronics; Max Surge Current: 140A; Forward Voltage: 700mV; Peak Inverse Voltage: 22.7V; Mounting Technology: SMT; RoHS Compliant: Yes; Case/Package: 3-QFN; Pins: 3; Manufacturer Part Number: ESDA24P140-1U3M
footprint STM-QFN3 (SMD, 3-Leads, Body 2x2mm)
pins: 1 A, 2 A, 3 K

## CMP-004-00030-3
designator D?, comment ESDALC5-1BM2  (value not drawn)
Single Line Low Capacitance Transil™, 5 V, -55 to 150 degC, 2-Pin SOD-882, RoHS, Tape and Reel; Manufacturer: STMicroelectronics; Mounting Technology: SMT; Pins: 2; Manufacturer Part Number: ESDALC5-1BM2
footprint STM-SOD-882_V (SOD-882, 2-Leads, Body 1x0.6mm)
pins: 1 A, 2 A

## CMP-005-00010-2
designator F?, comment FUSE-7A/24V-6
Surface Mount Fuses 7A 24V VFA SLIMLINE; Manufacturer: Littelfuse; Manufacturer Part Number: 429007; Manufacturer Part Number: 0429007.WRML; Current Rating: 7A; Pins: 2
footprint LFUS-466_V (SMD, 2-Leads, Body 3.175x1.524mm)
pins: 1, 2

## CMP-005-00011-2
designator F?, comment FUSE-2A/32V-3
Fast Acting Fuse, 2 A, 32 V, -55 to 90 degC, 2-Pin SMD, RoHS, Tape and Reel; Manufacturer: Littelfuse; Manufacturer Part Number: 0467002.NRHF; Current Rating: 2A; Mounting Technology: SurfaceMount; Pins: 2; Case/Package: LFUS-467; Manufacturer Part Number: FUSE-2A/32V-3
footprint LFUS-467_V (SMD, 2-Leads, Body 1.6x0.813mm)
pins: 1, 2

## CMP-005-00012-2
designator F?, comment FUSE-1A/32V-3
Fast Acting Fuse, 1 A, 32 V, -55 to 90 degC, 2-Pin SMD, RoHS, Tape and Reel; Manufacturer: Littelfuse; Manufacturer Part Number: 0467001.NRHF; Manufacturer Part Number: 0467001.NR; Current Rating: 1A; Pins: 2; Case/Package: LFUS-467; Manufacturer Part Number: FUSE-1A/32V-3
footprint LFUS-467_V (SMD, 2-Leads, Body 1.6x0.813mm)
pins: 1, 2

## CMP-006-00018-3
designator L?, comment 74404042330  (value not drawn)
WE-LQS SMD Power Inductor, L=33 µH; Manufacturer: Wurth Electronics; Manufacturer: Wuerth Elektronik; Tolerance: 20%; Value: 33µH; ComponentLink1Description: Manufacturer URL; ComponentLink2URL: http://katalog.we-online.de/pbs/datasheet/74404042330.pdf; ComponentLink2Description: Datasheet; ComponentLink1URL: http://www.we-online.com; Pins: 2; Manufacturer Part Number: 74404042330
footprint WE-LQS 4018 (SMD Power Inductor, 2-Leads, Body 4.0x4.0mm)
pins: 1, 2

## CMP-006-00019-3
designator L?, comment PCMB063T-2R2MS  (value not drawn)
Shielded Wirewound Inductor, 2.2 uH, +/- 20%, -20 to 120 degC, 2-Pin SMD, RoHS, Tape and Reel; Manufacturer: Susumu; Value: 2.2µH; Case/Package: SMD/SMT; Tolerance: 20%; Pins: 2; Manufacturer Part Number: PCMB063T-2R2MS
footprint SUSUMU-PCMB063T_V (SMD, 2-Leads, Body 7.8x6.7mm)
pins: 1, 2

## CMP-006-00020-3
designator L?, comment VLS252010HBX-2R2M-1  (value not drawn)
Inductor for Power Circuit, 2.2 uH, +/- 20%, -40 to 105 degC, 2-Pin SMD, RoHS, Tape and Reel; Manufacturer: TDK; Value: 2.2µH; Tolerance: 20%; Mounting Technology: SurfaceMount; Pins: 2; Manufacturer Part Number: VLS252010HBX-2R2M-1
footprint TDK-VLS252010_V (SMD, 2-Leads, Body 2.5x2mm)
pins: 1, 2

## CMP-007-00040-3
designator LED?, comment QBLP595-R
Chip LED 0402, Red, 0.02 A, 2.0 to 2.5 V, -40 to 80 degC, 2-Pin SMD, RoHS, Tape and Reel; Manufacturer: QT-Brightek; Mounting Technology: SMT; Pins: 2; Colour: Red; RoHS Compliant: Yes; Case/Package: 0402; Manufacturer Part Number: QBLP595-R
footprint QTB-QBLP595_V (SMD, 2-Leads, Body 1x0.5mm)
pins: 1 K, 2 A

## CMP-007-00041-3
designator LED?, comment QBLP595-IG
Chip LED 0402, Green, 0.02 A, 3.1 to 3.7 V, -40 to 80 degC, 2-Pin SMD, RoHS, Tape and Reel; Manufacturer: QT-Brightek; Mounting Technology: SMT; Colour: Green; Case/Package: 0402; Pins: 2; RoHS Compliant: Yes; Manufacturer Part Number: QBLP595-IG
footprint QTB-QBLP595_V (SMD, 2-Leads, Body 1x0.5mm)
pins: 1 K, 2 A

## CMP-007-00042-3
designator LED?, comment QBLP595-IB
Chip LED 0402, Blue, 0.02 A, 3.1 to 3.7 V, -40 to 80 degC, 2-Pin SMD, RoHS, Tape and Reel; Manufacturer: QT-Brightek; Case/Package: 0402; RoHS Compliant: Yes; Mounting Technology: SMT; Pins: 2; Colour: Blue; Manufacturer Part Number: QBLP595-IB
footprint QTB-QBLP595_V (SMD, 2-Leads, Body 1x0.5mm)
pins: 1 K, 2 A

## CMP-007-00043-3
designator LED?, comment QBLP595-Y
Chip LED 0402, Yellow, 0.02 A, 3.1 to 3.7 V, -40 to 80 degC, 2-Pin SMD, RoHS, Tape and Reel; Manufacturer: QT-Brightek; RoHS Compliant: Yes; Mounting Technology: SMT; Pins: 2; Case/Package: 0402; Colour: Yellow; Manufacturer Part Number: QBLP595-Y
footprint QTB-QBLP595_V (SMD, 2-Leads, Body 1x0.5mm)
pins: 1 K, 2 A

## CMP-009-00118-3
designator R?, comment value 1k  (hidden comment: Resistor 1K +/-5% 0805 125 mW)
Chip Resistor, 1 kOhms, +/-5%, 125 mW, -55 to 155 degC, 0805; Manufacturer: Yageo; Manufacturer Part Number: RC0805JR-071KL; Power: 125mW; Tolerance: 5%; Pins: 2; Case/Package: 0805; Max Operating Temperature: 155°C; Min Operating Temperature: -55°C
footprint RESC0805(2012)_L (Chip Resistor, Body 2.0x1.3mm, IPC High Density)
pins: 1, 2
1 alternate drawing of the same symbol

## CMP-009-00119-3
designator R?, comment value 7m  (hidden comment: Resistor 7mR +/-1% 1206 63 mW)
Chip Resistor, 0,007 Ohms, +/-1%, 63 mW, -55 to 155 degC, 1206; Manufacturer: Susumu; Manufacturer Part Number: KRL3216T4A-M-R007-F-T1; Tolerance: 1%; Case/Package: 1206; Max Operating Temperature: 155°C; Min Operating Temperature: -55°C; Pins: 4
footprint SUSUMU-3216T4A (SMD, 4-Leads, Body 3.2x1.6mm)
pins: 1 I1, 2 I2, 3 E1, 4 E2

## CMP-009-00120-2
designator RJ?, comment Net Tie 0.6x1.4mm  (value not drawn)  (net tie, no BOM)
Min Operating Temperature: -55°C; Max Operating Temperature: 155°C; Pins: 2
footprint SHORT10_8MIL-FP
pins: 1, 2

## CMP-009-00121-2
designator RJ?, comment Net Tie 12x8mil  (value not drawn)  (net tie, no BOM)
Min Operating Temperature: -55°C; Max Operating Temperature: 155°C; Pins: 2
footprint SHORT06-FP
pins: 1, 2

## CMP-009-00122-3
designator R?, comment value 470  (hidden comment: Resistor 470R +/-5% 0805 125 mW)
Chip Resistor, 470 Ohms, +/-5%, 125 mW, -55 to 155 degC, 0805; Manufacturer: Vishay Dale; Manufacturer Part Number: RCG0805470RJNEA; Manufacturer: Rohm; Manufacturer Part Number: ESR10EZPJ471; Manufacturer: Bourns; Manufacturer Part Number: CR0805-JW-471ELF; Manufacturer: Yageo; Manufacturer Part Number: RC0805JR-07470RL; Tolerance: 5%; Power: 125mW; Pins: 2; Min Operating Temperature: -55°C; Max Operating Temperature: 155°C; Case/Package: 0805
footprint RESC0805(2012)_L (Chip Resistor, Body 2.0x1.3mm, IPC High Density)
pins: 1, 2
1 alternate drawing of the same symbol

## CMP-009-00123-3
designator R?, comment value 22k  (hidden comment: Resistor 22K  +/-1 % 0402 63 mW)
Chip Resistor, 22 kOhms, +/-1 %, 63 mW, -55 to 155 degC, 0402; Manufacturer: Bourns; Manufacturer Part Number: CR0402-FX-2202GLF; Manufacturer: Vishay; Manufacturer Part Number: CRCW040222K0FKED; Manufacturer: Vishay Dale; Manufacturer Part Number: CRCW040222K0FKTD; Manufacturer: Panasonic; Manufacturer Part Number: ERJ-2RKF2202X; Manufacturer: Yageo Phycomp; Manufacturer Part Number: RC0402FR-0722KL; Power: 63mW; Tolerance: 1%; Case/Package: 0402; Max Operating Temperature: 155°C; Min Operating Temperature: -55°C; Pins: 2
footprint RESC0402(1005)_L (Chip Resistor, Body 1.0x0.5mm, IPC High Density)
pins: 1, 2
1 alternate drawing of the same symbol

## CMP-009-00124-3
designator R?, comment value 53.6k  (hidden comment: Resistor 53K6 +/-1 % 0402 63 mW)
Chip Resistor, 53,6 kOhms, +/-1 %, 63 mW, -55 to 155 degC, 0402; Manufacturer: Panasonic; Manufacturer Part Number: ERJ-2RKF5362X; Manufacturer: Yageo; Manufacturer Part Number: RC0402FR-0753K6L; Manufacturer: Bourns; Manufacturer Part Number: CR0402-FX-5362GLF; Manufacturer: Vishay Dale; Manufacturer Part Number: CRCW040253K6FKTD; Manufacturer: Vishay; Manufacturer Part Number: CRCW040253K6FKED; Power: 63mW; Tolerance: 1%; Case/Package: 0402; Max Operating Temperature: 155°C; Min Operating Temperature: -55°C; Pins: 2
footprint RESC0402(1005)_L (Chip Resistor, Body 1.0x0.5mm, IPC High Density)
pins: 1, 2
1 alternate drawing of the same symbol

## CMP-009-00125-3
designator R?, comment value 953k  (hidden comment: Resistor 953K +/-1 % 0402 63 mW)
Chip Resistor, 953 kOhms, +/-1 %, 63 mW, -55 to 155 degC, 0402; Manufacturer: Bourns; Manufacturer Part Number: CR0402-FX-9533GLF; Manufacturer: Vishay; Manufacturer Part Number: CRCW0402953KFKED; Manufacturer: Panasonic; Manufacturer Part Number: ERJ-2RKF9533X; Manufacturer: Yageo; Manufacturer Part Number: RC0402FR-07953KL; Manufacturer: Vishay Dale; Manufacturer Part Number: CRCW0402953KFKTD; Tolerance: 1%; Power: 63mW; Case/Package: 0402; Max Operating Temperature: 155°C; Min Operating Temperature: -55°C; Pins: 2
footprint RESC0402(1005)_L (Chip Resistor, Body 1.0x0.5mm, IPC High Density)
pins: 1, 2
1 alternate drawing of the same symbol

## CMP-009-00126-3
designator R?, comment value 383k  (hidden comment: Resistor 383K +/-1 % 0402 63 mW)
Chip Resistor, 383 kOhms, +/-1 %, 63 mW, -55 to 155 degC, 0402; Manufacturer: Yageo; Manufacturer Part Number: RC0402FR-07383KL; Manufacturer: Vishay Dale; Manufacturer Part Number: CRCW0402383KFKTD; Manufacturer: Bourns; Manufacturer Part Number: CR0402-FX-3833GLF; Manufacturer: Panasonic; Manufacturer Part Number: ERJ-2RKF3833X; Manufacturer: Vishay; Manufacturer Part Number: CRCW0402383KFKED; Tolerance: 1%; Power: 63mW; Case/Package: 0402; Max Operating Temperature: 155°C; Min Operating Temperature: -55°C; Pins: 2
footprint RESC0402(1005)_L (Chip Resistor, Body 1.0x0.5mm, IPC High Density)
pins: 1, 2
1 alternate drawing of the same symbol

## CMP-009-00128-3
designator R?, comment value 2.2  (hidden comment: Resistor 2R2  +/-5 % 0402 63 mW)
Chip Resistor, 2,2 Ohms, +/-5 %, 63 mW, -55 to 155 degC, 0402; Manufacturer: Bourns; Manufacturer Part Number: CR0402-J/-2R2GLF; Manufacturer: Vishay Dale; Manufacturer Part Number: CRCW04022R20JNED; Manufacturer: Panasonic; Manufacturer Part Number: ERJ-2GEJ2R2X; Manufacturer: Yageo; Manufacturer Part Number: RC0402JR-072R2L; Manufacturer Part Number: CRCW04022R20JNTD; Power: 63mW; Tolerance: 5%; Case/Package: 0402; Max Operating Temperature: 155°C; Min Operating Temperature: -55°C; Pins: 2
footprint RESC0402(1005)_L (Chip Resistor, Body 1.0x0.5mm, IPC High Density)
pins: 1, 2
1 alternate drawing of the same symbol

## CMP-009-00129-3
designator R?, comment value 2.26M  (hidden comment: Resistor 2M26 +/-1 % 0402 63 mW)
Chip Resistor, 2,26 MOhms, +/-1 %, 63 mW, -55 to 155 degC, 0402; Manufacturer: Vishay; Manufacturer Part Number: CRCW04022M26FKED; Manufacturer: Yageo; Manufacturer Part Number: RC0402FR-072M26L; Manufacturer: Vishay Dale; Manufacturer Part Number: CRCW04022M26FKTD; Power: 63mW; Tolerance: 1%; Case/Package: 0402; Max Operating Temperature: 155°C; Min Operating Temperature: -55°C; Pins: 2
footprint RESC0402(1005)_L (Chip Resistor, Body 1.0x0.5mm, IPC High Density)
pins: 1, 2
1 alternate drawing of the same symbol

## CMP-009-00131-3
designator R?, comment value 301k  (hidden comment: Resistor 301K +/-1 % 0402 63 mW)
Chip Resistor, 301 kOhms, +/-1 %, 63 mW, -55 to 155 degC, 0402; Manufacturer: Bourns; Manufacturer Part Number: CR0402-FX-3013GLF; Manufacturer: Vishay Dale; Manufacturer Part Number: CRCW0402301KFKTD; Manufacturer: Panasonic; Manufacturer Part Number: ERJ-2RKF3013X; Manufacturer: Vishay; Manufacturer Part Number: CRCW0402301KFKED; Manufacturer: Yageo; Manufacturer Part Number: RC0402FR-07301KL; Tolerance: 1%; Power: 63mW; Case/Package: 0402; Max Operating Temperature: 155°C; Min Operating Temperature: -55°C; Pins: 2
footprint RESC0402(1005)_L (Chip Resistor, Body 1.0x0.5mm, IPC High Density)
pins: 1, 2
1 alternate drawing of the same symbol

## CMP-009-00132-3
designator R?, comment value 330  (hidden comment: Resistor 330R +/-5 % 0402 63 mW)
Chip Resistor, 330 Ohms, +/-5 %, 63 mW, -55 to 155 degC, 0402; Manufacturer: Vishay Dale; Manufacturer Part Number: CRCW0402330RJNEE; Manufacturer Part Number: CRCW0402330RJNED; Manufacturer Part Number: CRCW0402330RJNTD; Manufacturer: Panasonic; Manufacturer Part Number: ERJ-2GEJ331X; Manufacturer: Yageo; Manufacturer Part Number: RC0402JR-07330RL; Manufacturer Part Number: CRCW0402330RJNTE; Manufacturer: Bourns; Manufacturer Part Number: CR0402-JW-331GLF; Tolerance: 5%; Power: 63mW; Case/Package: 0402; Max Operating Temperature: 155°C; Min Operating Temperature: -55°C; Pins: 2
footprint RESC0402(1005)_L (Chip Resistor, Body 1.0x0.5mm, IPC High Density)
pins: 1, 2
1 alternate drawing of the same symbol

## CMP-009-00133-3
designator R?, comment value 121k  (hidden comment: Resistor 121K +/-1 % 0402 63 mW)
Chip Resistor, 121 kOhms, +/-1 %, 63 mW, -55 to 155 degC, 0402; Manufacturer: Panasonic; Manufacturer Part Number: ERJ-2RKF1213X; Manufacturer: Vishay Dale; Manufacturer Part Number: CRCW0402121KFKEE; Manufacturer Part Number: CRCW0402121KFKTD; Manufacturer: Vishay; Manufacturer Part Number: CRCW0402121KFKED; Manufacturer: Yageo; Manufacturer Part Number: RC0402FR-07121KL; Manufacturer: Bourns; Manufacturer Part Number: CR0402-FX-1213GLF; Power: 63mW; Tolerance: 1%; Case/Package: 0402; Max Operating Temperature: 155°C; Min Operating Temperature: -55°C; Pins: 2
footprint RESC0402(1005)_L (Chip Resistor, Body 1.0x0.5mm, IPC High Density)
pins: 1, 2
1 alternate drawing of the same symbol

## CMP-009-00134-3
designator R?, comment value 324k  (hidden comment: Resistor 324K +/-1 % 0402 63 mW)
Chip Resistor, 324 kOhms, +/-1 %, 63 mW, -55 to 155 degC, 0402; Manufacturer: Bourns; Manufacturer Part Number: CR0402-FX-3243GLF; Manufacturer: Vishay Dale; Manufacturer Part Number: CRCW0402324KFKTD; Manufacturer: Vishay; Manufacturer Part Number: CRCW0402324KFKED; Manufacturer: Yageo; Manufacturer Part Number: RC0402FR-07324KL; Manufacturer: Panasonic; Manufacturer Part Number: ERJ-2RKF3243X; Power: 63mW; Tolerance: 1%; Case/Package: 0402; Max Operating Temperature: 155°C; Min Operating Temperature: -55°C; Pins: 2
footprint RESC0402(1005)_L (Chip Resistor, Body 1.0x0.5mm, IPC High Density)
pins: 1, 2
1 alternate drawing of the same symbol

## CMP-009-00135-3
designator R?, comment value 9.1k  (hidden comment: Resistor 9K1  +/-5 % 0402 63 mW)
Chip Resistor, 9,1 kOhms, +/-5 %, 63 mW, -55 to 155 degC, 0402; Manufacturer: Panasonic; Manufacturer Part Number: ERJ-2GEJ912X; Manufacturer: Vishay Dale; Manufacturer Part Number: CRCW04029K10JNED; Manufacturer: Yageo; Manufacturer Part Number: RC0402JR-079K1L; Manufacturer: Bourns; Manufacturer Part Number: CR0402JW912GLF; Manufacturer Part Number: CRCW04029K10JNTD; Power: 63mW; Tolerance: 5%; Case/Package: 0402; Max Operating Temperature: 155°C; Min Operating Temperature: -55°C; Pins: 2
footprint RESC0402(1005)_L (Chip Resistor, Body 1.0x0.5mm, IPC High Density)
pins: 1, 2
1 alternate drawing of the same symbol

## CMP-009-00136-3
designator R?, comment value 5.6k  (hidden comment: Resistor 5K6  +/-5 % 0402 63 mW)
Chip Resistor, 5,6 kOhms, +/-5 %, 63 mW, -55 to 155 degC, 0402; Manufacturer: Yageo; Manufacturer Part Number: RC0402JR-075K6L; Manufacturer: Bourns; Manufacturer Part Number: CR0402-JW-562GLF; Manufacturer: Vishay Dale; Manufacturer Part Number: CRCW04025K60JNTD; Manufacturer Part Number: CRCW04025K60JNED; Manufacturer: Panasonic; Manufacturer Part Number: ERJ-2GEJ562X; Power: 63mW; Tolerance: 5%; Case/Package: 0402; Max Operating Temperature: 155°C; Min Operating Temperature: -55°C; Pins: 2
footprint RESC0402(1005)_L (Chip Resistor, Body 1.0x0.5mm, IPC High Density)
pins: 1, 2
1 alternate drawing of the same symbol

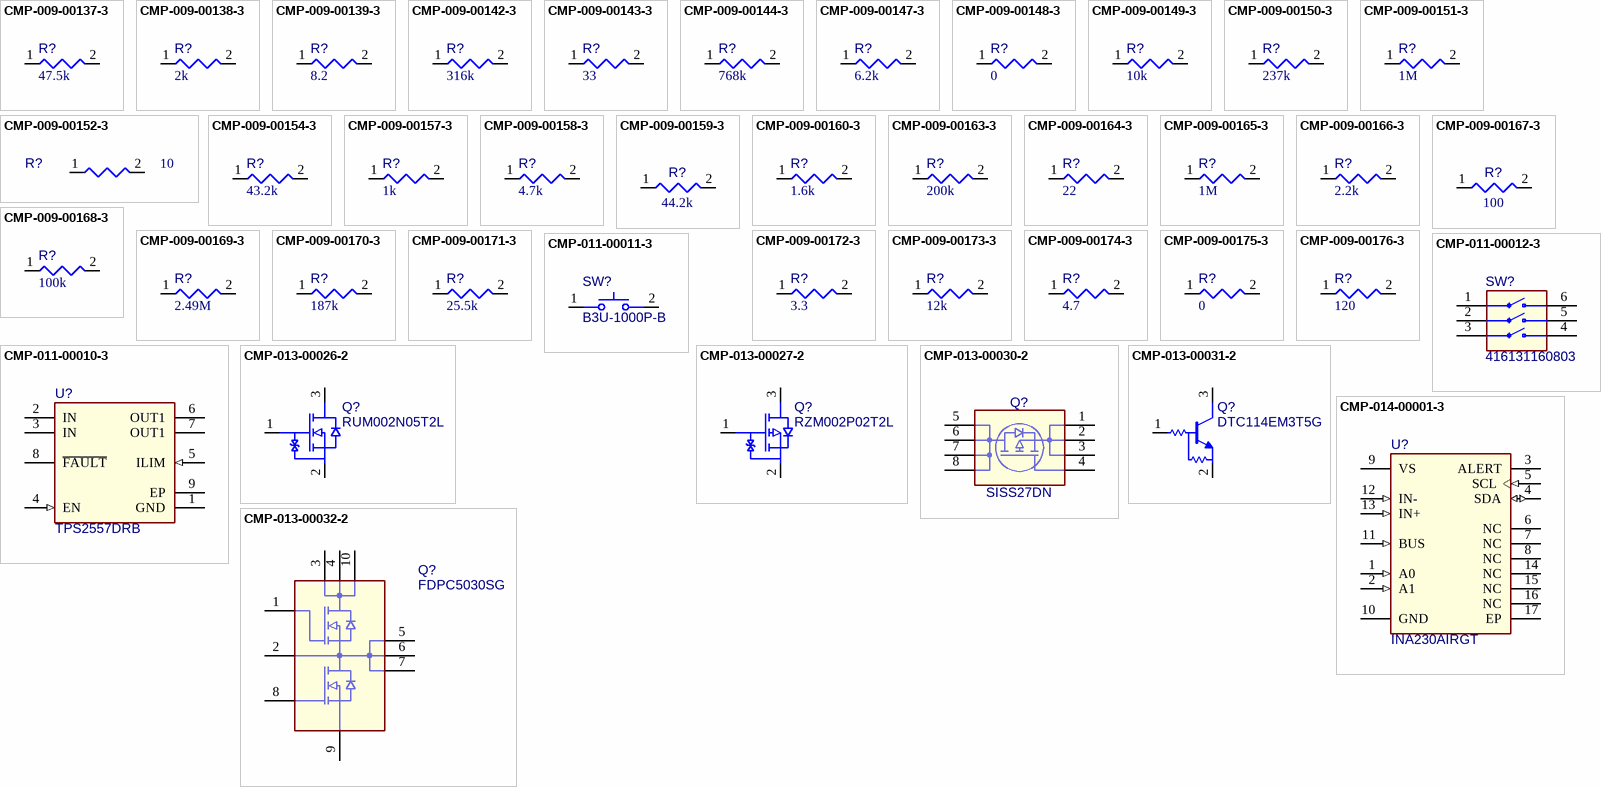
[diagram p2: symbols CMP-009-00137-3 to CMP-014-00001-3]

## CMP-009-00137-3
designator R?, comment value 47.5k  (hidden comment: Resistor 47K5 +/-1 % 0402 63 mW)
Chip Resistor, 47,5 kOhms, +/-1 %, 63 mW, -55 to 155 degC, 0402; Manufacturer: Yageo; Manufacturer Part Number: RC0402FR-0747K5L; Manufacturer: Bourns; Manufacturer Part Number: CR0402-FX-4752GLF; Manufacturer: Vishay Dale; Manufacturer Part Number: CRCW040247K5FKTD; Manufacturer: Vishay; Manufacturer Part Number: CRCW040247K5FKED; Manufacturer: Panasonic; Manufacturer Part Number: ERJ-2RKF4752X; Power: 63mW; Tolerance: 1%; Case/Package: 0402; Max Operating Temperature: 155°C; Min Operating Temperature: -55°C; Pins: 2
footprint RESC0402(1005)_L (Chip Resistor, Body 1.0x0.5mm, IPC High Density)
pins: 1, 2
1 alternate drawing of the same symbol